# Altium schematic symbol library SnapEDAsch.SchLib: 1 symbol
Pins are listed as number, name and electrical type; pins without a type are passive.

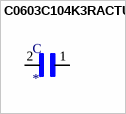
[diagram p0: symbol C0603C104K3RACTU]

## C0603C104K3RACTU
designator C
0.1ÂµF Â±10% 25V Ceramic Capacitor X7R 0603 _1608 Metric_; MF: KEMET; MP: C0603C104K3RACTU; Digi-Key_Part_Number: 399-1281-1-ND; SnapEDA_Link: https://www.snapeda.com/parts/C0603C104K3RACTU/KEMET/view-part/78674/?ref=snap; Package: 0603 Kemet; Digi-Key_Purchase_URL: https://www.digikey.com/product-detail/en/kemet/C0603C104K3RACTU/399-1281-1-ND/416057?utm_source=snapeda&utm_medium=aggregator&utm_campaign=symbol; Value: *
footprint CAPC1608X90
pins: 1, 2